# EAGLE library part ML-53254-6 (library CalPolyUCV)
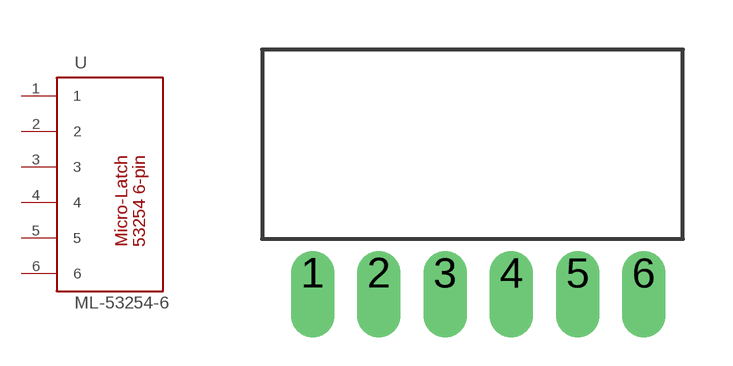
[diagram p7: symbol with the pads of ML-53254-6; footprint ML-53254-6]

Designator prefix -

## ML-53254-6  [ML-53254-6]
1  1
2  2
3  3
4  4
5  5
6  6

## Footprint ML-53254-6 (pad centres in mm)
drill 0.8 offset: 1 -5.08,-3.81; 2 -3.08,-3.81; 3 -1.08,-3.81; 4 0.92,-3.81; 5 2.92,-3.81; 6 4.92,-3.81